# EAGLE library part ATMEGA8_1 (library ATMEGA8_SR)
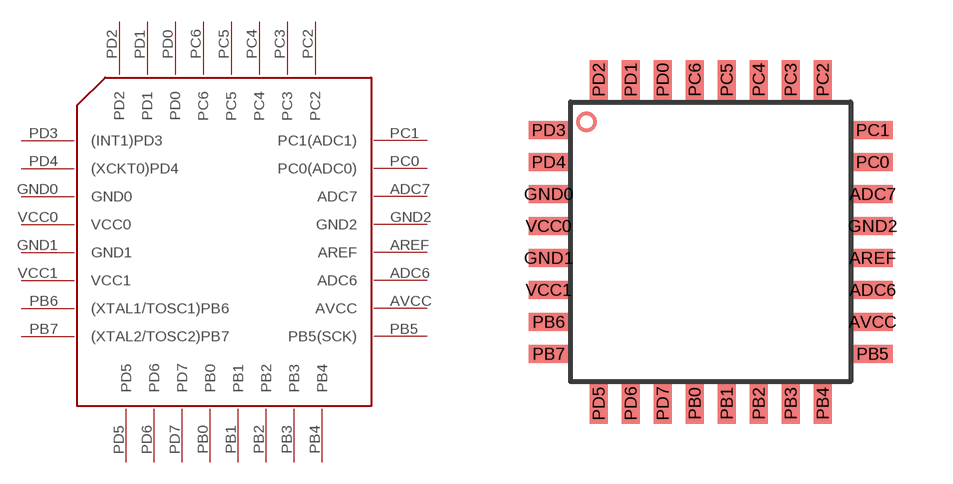
[diagram p0: symbol with the pads of ATMEGA8_1_TQFP; footprint ATMEGA8_1_TQFP]

Designator prefix -

## ATMEGA8_1  [ATMEGA8_1_TQFP]
ADC6  ADC6
ADC7  ADC7
AREF  AREF
AVCC  AVCC
GND0  GND0
GND1  GND1
GND2  GND2
PB0  PB0
PB1  PB1
PB2  PB2
PB3  PB3
PB4  PB4
PB5  PB5(SCK)
PB6  (XTAL1/TOSC1)PB6
PB7  (XTAL2/TOSC2)PB7
PC0  PC0(ADC0)
PC1  PC1(ADC1)
PC2  PC2
PC3  PC3
PC4  PC4
PC5  PC5
PC6  PC6
PD0  PD0
PD1  PD1
PD2  PD2
PD3  (INT1)PD3
PD4  (XCKT0)PD4
PD5  PD5
PD6  PD6
PD7  PD7
VCC0  VCC0
VCC1  VCC1

## Footprint ATMEGA8_1_TQFP (pad centres in mm)
smd 1 x 0.45: ADC6 3.55,-0.7; ADC7 3.55,1.7; AREF 3.55,0.1; AVCC 3.55,-1.5; GND0 -4.55,1.7; GND1 -4.55,0.1; GND2 3.55,0.9; PB5 3.55,-2.3; PB6 -4.55,-1.5; PB7 -4.55,-2.3; PC0 3.55,2.5; PC1 3.55,3.3; PD3 -4.55,3.3; PD4 -4.55,2.5; VCC0 -4.55,0.9; VCC1 -4.55,-0.7
smd 0.45 x 1: PB0 -0.9,-3.55; PB1 -0.1,-3.55; PB2 0.7,-3.55; PB3 1.5,-3.55; PB4 2.3,-3.55; PC2 2.3,4.55; PC3 1.5,4.55; PC4 0.7,4.55; PC5 -0.1,4.55; PC6 -0.9,4.55; PD0 -1.7,4.55; PD1 -2.5,4.55; PD2 -3.3,4.55; PD5 -3.3,-3.55; PD6 -2.5,-3.55; PD7 -1.7,-3.55